# Altium schematic symbol library 双联电位器.SchLib: 2 symbols
Pins are listed as number, name and electrical type; pins without a type are passive.

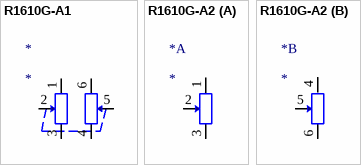
[diagram p0: symbols R1610G-A1 to R1610G-A2]

## R1610G-A1
designator *
footprint R1610G-A1 (双联电位器，脚距：5mm，柄长：15mm)
pins: 1, 2, 3, 4, 5, 6

## R1610G-A2
designator *
footprint R1610G-A1 (双联电位器，脚距：5mm，柄长：15mm)
part A pins: 1, 2, 3
part B pins: 4, 5, 6